# Altium schematic symbol library DIODE.SchLib: 2 symbols
Pins are listed as number, name and electrical type; pins without a type are passive.

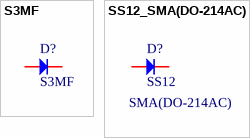
[diagram p0: symbols S3MF to SS12_SMA(DO-214AC)]

## S3MF
designator D?
3A Independent Type 1.1V@3A 1kV SMAF Diodes - General Purpose ROHS; Manufacturer: Shandong Jingdao Microelectronics; Manufacture Part Number: S3MF; Packaging: Cut Tape; Link: https://www.lcsc.com/product-detail/Diodes-General-Purpose_Shandong-Jingdao-Microelectronics-S3MF_C123928.html?s_z=n_s3m; Package: SMAF
footprint D_SMAF_L3.5-W2.6-LS4.7-RD
pins: 1, 2

## SS12_SMA(DO-214AC)
designator D?, comment SS12  Package: SMA(DO-214AC)
40V 550mV@1A 1A SMA(DO-214AC) Schottky Diodes ROHS; Manufacturer: onsemi; Mfr. Part: SS12; LCSC Part: C184027; Link: https://www.lcsc.com/product-detail/C184027.html?s_z=n_ss12
footprint SMA(DO-214AC)
pins: 1, 2